# Altium footprint library Wire To Board Connector.PcbLib: 1 footprints
Each footprint in its own frame and in the unit in brackets; x right, y up, seen from the top. Pads: shape width x height; smd on the part's side, far side on the other; paste and mask are expansions set on the pad; w line width, h text height; cw(c..) or ccw(c..) is an arc to the next point about the centre after c.
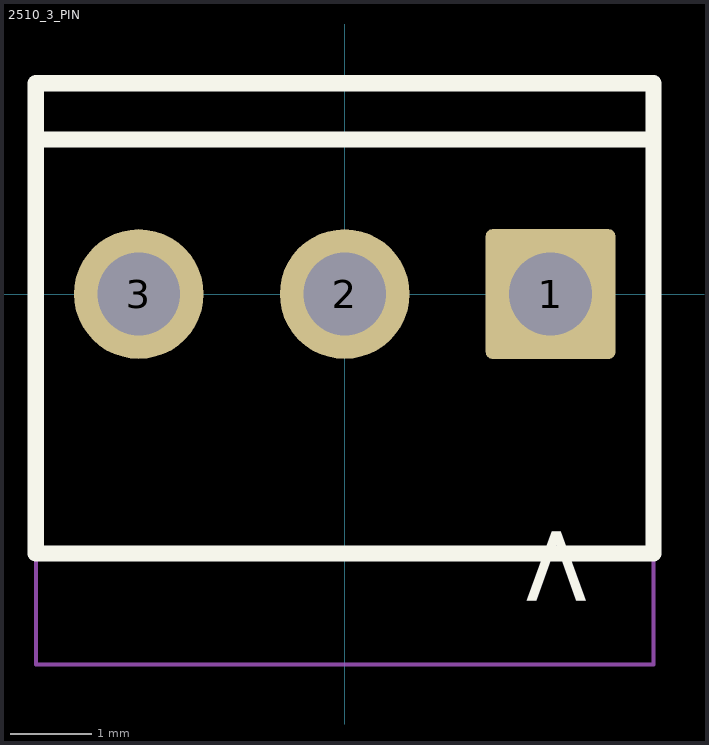
[diagram p0: the footprint, top view; thin cyan lines are the x and y axes]

## 2510_3_PIN [mm] "DS1070 CONNFLY; KLS1-2.54 KLS; Molex 2510, etc."
height 11.6
pads (3):
  rrect10% 1.6x1.6 hole 1.02 paste-2539.97 mask+0.05: 1(2.54,0)
  round 1.6 hole 1.02 paste-2539.97 mask+0.05: 2(0,0) 3(-2.54,0)
Top Overlay:
  lines w0.2: -3.81,1.905 3.81,1.905 ; -3.81,-3.2 -3.81,2.6 3.81,2.6 3.81,-3.2 -3.81,-3.2
  text ">" at 3.04,-3.93 h1
Top Assembly:
  lines w0.05: -3.81,1.905 3.81,1.905 ; -3.81,-3.2 3.81,-3.2 3.81,2.6 -3.81,2.6 -3.81,-3.2
Top Courtyard:
  lines w0.05: -3.81,-4.572 3.81,-4.572 3.81,2.54 -3.81,2.54 -3.81,-4.572
Top Component Center:
  lines w0.05: -0.15,0 0.15,0 ; 0,-0.15 0,0.15
3D body "WF-3-gold.step": height 11.3, standoff -3.4, extent -3.81,-3.175 3.81,2.625